# Altium footprint library Discrete_LED_Indication_TH.PcbLib: 2 footprints
Each footprint in its own frame and in the unit in brackets; x right, y up, seen from the top. Pads: shape width x height; smd on the part's side, far side on the other; paste and mask are expansions set on the pad; w line width, h text height; cw(c..) or ccw(c..) is an arc to the next point about the centre after c.
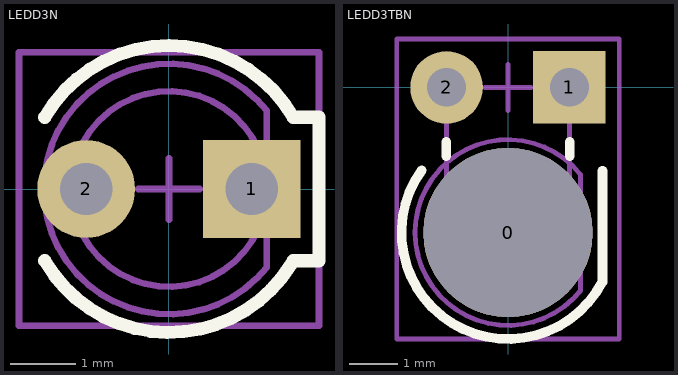
[diagram p0: the footprints below, top view; thin cyan lines are the x and y axes]

## LEDD3N [mm] "LED Indication, Body TH D3 4.0x3.5mm"
height 6.25
pads (2):
  rect 1.5x1.5 hole 0.8: 1(1.27,0)
  round 1.5 hole 0.8: 2(-1.27,0)
Top Overlay:
  lines w0.2: -1.905,-1.1 ccw(c0,0) 1.877,-1.147 ; -1.905,1.1 cw(c0,0) 1.905,1.1 2.3,1.1 2.3,-1.1 1.905,-1.1
Top Package:
  circle w0.1: c0,0 r1.5
  circle w0.1: c1.27,0 r0.27
  circle w0.1: c-1.27,0 r0.27
  lines w0.1: 1.5,-1.2 1.5,1.2 ; 1.499,-1.199 cw(c0,0) 1.499,1.199
Top Border:
  lines w0.1: -0.475,0 0.475,0 ; 0,-0.475 0,0.475 ; -2.3,-2.1 2.3,-2.1 2.3,2.1 -2.3,2.1 -2.3,-2.1
3D body "LEDD3-lens.stp": height 5.5, standoff 0, extent -1.925,-1.906 1.575,1.889
3D body "LEDD3-leads.stp": height 2.1, standoff -2, extent -1.52,-0.716 1.47,0.7

## LEDD3TBN [mm] "LED Indication, Body TH Throad board D3 4.0x3.5mm"
height 6.25
pads (3):
  round 3.5 hole 3.5 unplated: 0(0,-3)
  rect 1.5x1.5 hole 0.8: 1(1.27,0)
  round 1.5 hole 0.8: 2(-1.27,0)
Top Overlay:
  lines w0.2: -1.783,-1.712 ccw(c0,-3) 1.947,-4.024 ; -1.275,-1.425 -1.275,-1.125 ; 1.275,-1.425 1.275,-1.125 ; 1.952,-4.024 1.952,-1.725
Top Package:
  circle w0.1: c-1.27,0 r0.27
  circle w0.1: c1.27,0 r0.27
  circle w0.1: c0,-3 r1.5
  lines w0.1: -1.27,-3.073 -1.27,0 ; 1.27,-3.073 1.27,0 ; 1.499,-1.801 ccw(c0,-3) 1.499,-4.199 1.5,-1.8
Top Border:
  lines w0.1: -0.475,0 0.475,0 ; 0,-0.475 0,0.475 ; -2.3,-5.2 2.3,-5.2 2.3,1 -2.3,1 -2.3,-5.2
3D body "LEDD3-lens.stp": height 2.7, standoff -2.8, extent -1.75,-4.906 1.75,-1.111
3D body "LEDD3-throad_boardd_leads.stp": height 4.92, standoff -1.55, extent -1.495,-3.716 1.495,0.217